# Altium schematic symbol library Mobile_adapter_5V_1A_LQ.SchLib: 11 symbols
Pins are listed as number, name and electrical type; pins without a type are passive.

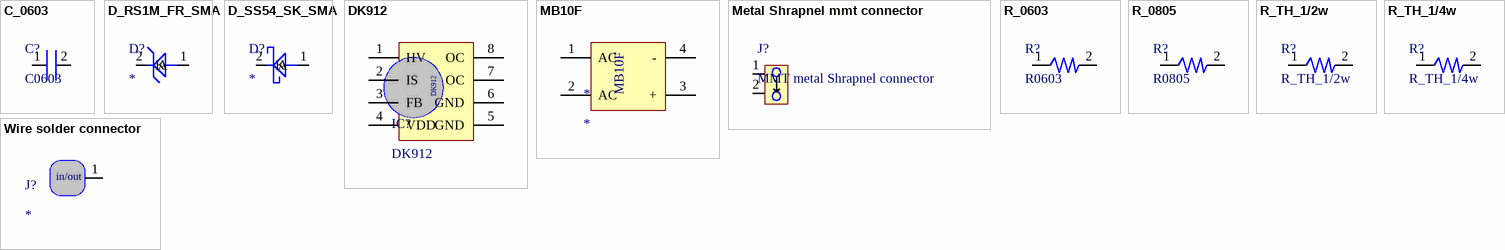
[diagram p0: symbols C_0603 to Wire solder connector]

## C_0603
designator C?, comment C0603
PN: *; Link: *
footprint C_0603
pins: 1, 2

## D_RS1M_FR_SMA
designator D?
PN: *; Link: *
footprint SMA_M7
pins: 1 A, 2 K

## D_SS54_SK_SMA
designator D?
PN: *; Link: *
footprint SMA_M7
pins: 1 A, 2 K

## DK912
designator IC?
Link: *; PN: *
footprint SOP8
pins: 1 HV, 2 IS, 3 FB, 4 VDD, 5 GND, 6 GND, 7 OC, 8 OC

## MB10F
designator *
SMD; Link: *; PN: *
footprint MB10F
pins: 1 AC, 2 AC, 3 +, 4 -

## Metal Shrapnel mmt connector
designator J?, comment MMT metal Shrapnel connector
Metal Shrapnel mmt connector mobile charger; PN: *; Link: https://mmt2018.en.made-in-china.com/product/rjtmlFMyLiks/China-Mmt-AC-Mobile-Phone-Charger-Metal-Shrapnel-Contact.html
footprint MMT Metal shrapnel connector
pins: 1, 2

## R_0603
designator R?, comment R0603
PN: *; Link: *
footprint R_0603
pins: 1, 2

## R_0805
designator R?, comment R0805
PN: *; Link: *
footprint R_0805
pins: 1, 2

## R_TH_1/2w
designator R?
PN: *; Link: *
footprint R_TH_1/2W
pins: 1, 2

## R_TH_1/4w
designator R?
PN: *; Link: *
footprint R_TH_1/4w
pins: 1, 2

## Wire solder connector
designator J?
footprint Wire solder connector
pins: 1
text: in/out